# Altium schematic symbol library MCP16301.SchLib: 1 symbol
Pins are listed as number, name and electrical type; pins without a type are passive.

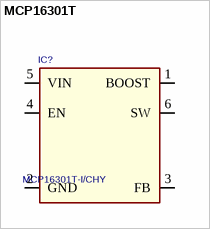
[diagram p0: symbol MCP16301T]

## MCP16301T
designator IC?, comment MCP16301T-I/CHY
BUY_LINK: http://www.digikey.com/product-detail/en/MCP16301T-I%2FCHY/MCP16301T-I%2FCHYCT-ND/2696163; PDF: http://www.microchip.com/mymicrochip/filehandler.aspx?ddocname=en554098; ID: MCP16301T-I/CHY; PRICE: 1.21000
footprint SOT23-6
pins: 1 BOOST, 2 GND, 3 FB, 4 EN, 5 VIN, 6 SW